# Altium schematic symbol library IND - Fixed Inductors 0402.SchLib: 42 symbols (part 1 of 2)
Pins are listed as number, name and electrical type; pins without a type are passive.

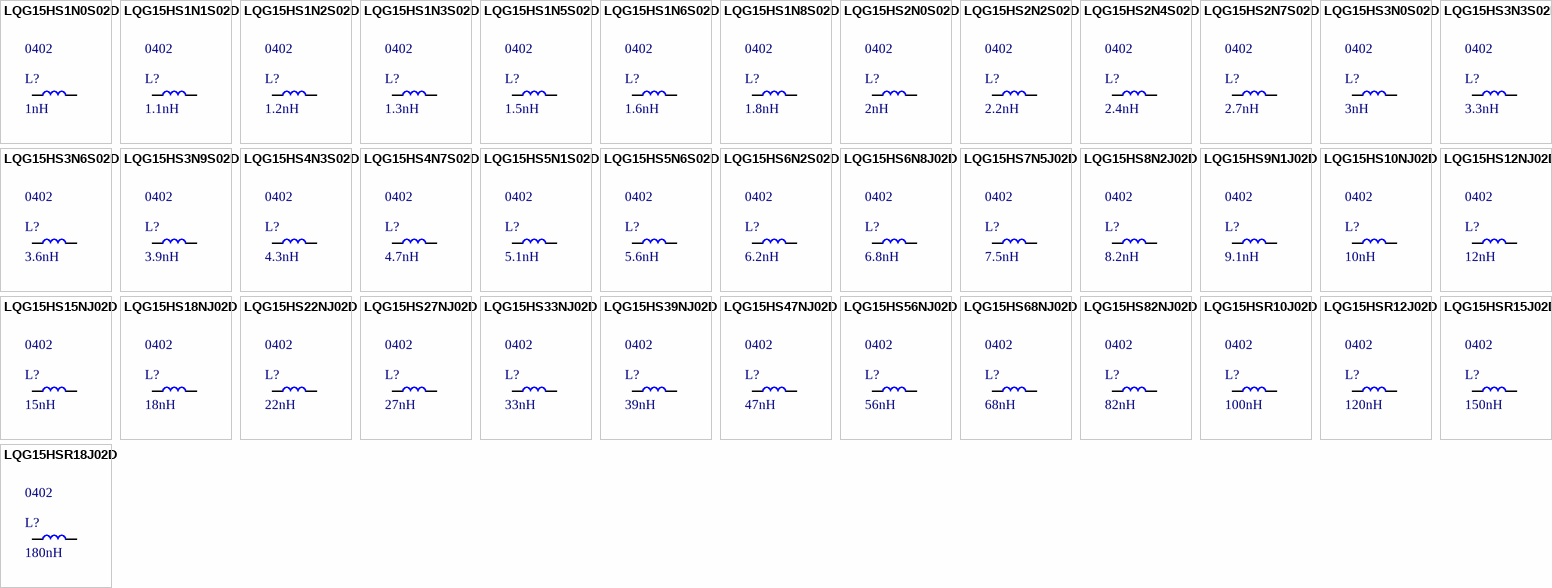
[diagram p0: symbols LQG15HS1N0S02D to LQG15HSR18J02D]

## LQG15HS1N0S02D
designator L?, comment 1nH  Package / Case: 0402
FIXED IND 1NH 1A 70 MOHM SMD; Manufacturer: Murata Electronics North America; Manufacturer Part Number: LQG15HS1N0S02D; Type: Multilayer; Tolerance: ±0.3nH; Shielding: Unshielded; DC Resistance (DCR): 70 mOhm Max; Q @ Freq: 8 @ 100MHz; Frequency - Self Resonant: 10GHz; Frequency - Test: 100MHz; Supplier 1: Digi-Key; RoHS: RoHS Compliant; Category: Inductors, Coils, Chokes; Stock 1: 71998; Pricing 1: 1=0.1, 10=0.059, 25=0.0528, 50=0.0456, 100=0.041, 250=0.03804, 500=0.0351, 750=0.03335, 1000=0.03042 (USD); Packaging: Cut Tape (CT); Part Status: Active; Material - Core: -; Inductance: 1nH; Current Rating: 1A; Current - Saturation: -; Ratings: -; Operating Temperature: -55°C ~ 125°C; Mounting Type: Surface Mount; Supplier Device Package: 0402 (1005 Metric); Size / Dimension: 0.039" L x 0.020" W (1.00mm x 0.50mm); Height - Seated (Max): 0.022" (0.55mm); ComponentLink1URL: http://psearch.en.murata.com/inductor/product/LQG15HS1N0S02_.pdf; ComponentLink1Description: http://psearch.en.murata.com/inductor/product/LQG15HS1N0S02_.pdf; Supplier Part Number 1: 490-2610-1-ND
footprint L 0402 (1005) (Chip Capacitor, 2-Leads, Body 1.0x0.5mm, IPC Medium Density)
pins: 1, 2

## LQG15HS1N1S02D
designator L?, comment 1.1nH  Package / Case: 0402
FIXED IND 1.1NH 1A 90 MOHM; Manufacturer: Murata Electronics North America; Manufacturer Part Number: LQG15HS1N1S02D; Type: Multilayer; Tolerance: ±0.3nH; Shielding: Unshielded; DC Resistance (DCR): 90 mOhm Max; Q @ Freq: 8 @ 100MHz; Frequency - Self Resonant: 6GHz; Frequency - Test: 100MHz; Supplier 1: Digi-Key; RoHS: RoHS Compliant; Category: Inductors, Coils, Chokes; Stock 1: 23731; Pricing 1: 1=0.1, 10=0.059, 25=0.0528, 50=0.0456, 100=0.041, 250=0.03804, 500=0.0351, 750=0.03335, 1000=0.03042 (USD); Packaging: Cut Tape (CT); Part Status: Active; Material - Core: -; Inductance: 1.1nH; Current Rating: 1A; Current - Saturation: -; Ratings: -; Operating Temperature: -55°C ~ 125°C; Mounting Type: Surface Mount; Supplier Device Package: 0402 (1005 Metric); Size / Dimension: 0.039" L x 0.020" W (1.00mm x 0.50mm); Height - Seated (Max): 0.022" (0.55mm); ComponentLink1URL: http://psearch.en.murata.com/inductor/product/LQG15HS1N1S02_.pdf; ComponentLink1Description: http://psearch.en.murata.com/inductor/product/LQG15HS1N1S02_.pdf; Supplier Part Number 1: 490-6567-1-ND
footprint L 0402 (1005) (Chip Capacitor, 2-Leads, Body 1.0x0.5mm, IPC Medium Density)
pins: 1, 2

## LQG15HS1N2S02D
designator L?, comment 1.2nH  Package / Case: 0402
FIXED IND 1.2NH 1A 90 MOHM; Manufacturer: Murata Electronics North America; Manufacturer Part Number: LQG15HS1N2S02D; Type: Multilayer; Tolerance: ±0.3nH; Shielding: Unshielded; DC Resistance (DCR): 90 mOhm Max; Q @ Freq: 8 @ 100MHz; Frequency - Self Resonant: 6GHz; Frequency - Test: 100MHz; Supplier 1: Digi-Key; RoHS: RoHS Compliant; Category: Inductors, Coils, Chokes; Stock 1: 66516; Pricing 1: 1=0.1, 10=0.059, 25=0.0528, 50=0.0456, 100=0.041, 250=0.03804, 500=0.0351, 750=0.03335, 1000=0.03042 (USD); Packaging: Cut Tape (CT); Part Status: Active; Material - Core: -; Inductance: 1.2nH; Current Rating: 1A; Current - Saturation: -; Ratings: -; Operating Temperature: -55°C ~ 125°C; Mounting Type: Surface Mount; Supplier Device Package: 0402 (1005 Metric); Size / Dimension: 0.039" L x 0.020" W (1.00mm x 0.50mm); Height - Seated (Max): 0.022" (0.55mm); ComponentLink1URL: http://psearch.en.murata.com/inductor/product/LQG15HS1N2S02_.pdf; ComponentLink1Description: http://psearch.en.murata.com/inductor/product/LQG15HS1N2S02_.pdf; Supplier Part Number 1: 490-2611-1-ND
footprint L 0402 (1005) (Chip Capacitor, 2-Leads, Body 1.0x0.5mm, IPC Medium Density)
pins: 1, 2

## LQG15HS1N3S02D
designator L?, comment 1.3nH  Package / Case: 0402
FIXED IND 1.3NH 1A 90 MOHM; Manufacturer: Murata Electronics North America; Manufacturer Part Number: LQG15HS1N3S02D; Type: Multilayer; Tolerance: ±0.3nH; Shielding: Unshielded; DC Resistance (DCR): 90 mOhm Max; Q @ Freq: 8 @ 100MHz; Frequency - Self Resonant: 6GHz; Frequency - Test: 100MHz; Supplier 1: Digi-Key; RoHS: RoHS Compliant; Category: Inductors, Coils, Chokes; Stock 1: 17184; Pricing 1: 1=0.1, 10=0.059, 25=0.0528, 50=0.0456, 100=0.041, 250=0.03804, 500=0.0351, 750=0.03335, 1000=0.03042 (USD); Packaging: Cut Tape (CT); Part Status: Active; Material - Core: -; Inductance: 1.3nH; Current Rating: 1A; Current - Saturation: -; Ratings: -; Operating Temperature: -55°C ~ 125°C; Mounting Type: Surface Mount; Supplier Device Package: 0402 (1005 Metric); Size / Dimension: 0.039" L x 0.020" W (1.00mm x 0.50mm); Height - Seated (Max): 0.022" (0.55mm); ComponentLink1URL: http://psearch.en.murata.com/inductor/product/LQG15HS1N3S02_.pdf; ComponentLink1Description: http://psearch.en.murata.com/inductor/product/LQG15HS1N3S02_.pdf; Supplier Part Number 1: 490-6568-1-ND
footprint L 0402 (1005) (Chip Capacitor, 2-Leads, Body 1.0x0.5mm, IPC Medium Density)
pins: 1, 2

## LQG15HS1N5S02D
designator L?, comment 1.5nH  Package / Case: 0402
FIXED IND 1.5NH 1A 100 MOHM; Manufacturer: Murata Electronics North America; Manufacturer Part Number: LQG15HS1N5S02D; Type: Multilayer; Tolerance: ±0.3nH; Shielding: Unshielded; DC Resistance (DCR): 100 mOhm Max; Q @ Freq: 8 @ 100MHz; Frequency - Self Resonant: 6GHz; Frequency - Test: 100MHz; Supplier 1: Digi-Key; RoHS: RoHS Compliant; Category: Inductors, Coils, Chokes; Stock 1: 35953; Pricing 1: 1=0.1, 10=0.055, 25=0.0492, 50=0.0426, 100=0.0382, 250=0.03544, 500=0.0327, 750=0.03107, 1000=0.02834 (USD); Packaging: Cut Tape (CT); Part Status: Active; Material - Core: -; Inductance: 1.5nH; Current Rating: 1A; Current - Saturation: -; Ratings: -; Operating Temperature: -55°C ~ 125°C; Mounting Type: Surface Mount; Supplier Device Package: 0402 (1005 Metric); Size / Dimension: 0.039" L x 0.020" W (1.00mm x 0.50mm); Height - Seated (Max): 0.022" (0.55mm); ComponentLink1URL: http://psearch.en.murata.com/inductor/product/LQG15HS1N5S02_.pdf; ComponentLink1Description: http://psearch.en.murata.com/inductor/product/LQG15HS1N5S02_.pdf; Supplier Part Number 1: 490-2612-1-ND
footprint L 0402 (1005) (Chip Capacitor, 2-Leads, Body 1.0x0.5mm, IPC Medium Density)
pins: 1, 2

## LQG15HS1N6S02D
designator L?, comment 1.6nH  Package / Case: 0402
FIXED IND 1.6NH 1A 100 MOHM; Manufacturer: Murata Electronics North America; Manufacturer Part Number: LQG15HS1N6S02D; Type: Multilayer; Tolerance: ±0.3nH; Shielding: Unshielded; DC Resistance (DCR): 100 mOhm Max; Q @ Freq: 8 @ 100MHz; Frequency - Self Resonant: 6GHz; Frequency - Test: 100MHz; Supplier 1: Digi-Key; RoHS: RoHS Compliant; Category: Inductors, Coils, Chokes; Stock 1: 11878; Pricing 1: 1=0.1, 10=0.059, 25=0.0528, 50=0.0456, 100=0.041, 250=0.03804, 500=0.0351, 750=0.03335, 1000=0.03042 (USD); Packaging: Cut Tape (CT); Part Status: Active; Material - Core: -; Inductance: 1.6nH; Current Rating: 1A; Current - Saturation: -; Ratings: -; Operating Temperature: -55°C ~ 125°C; Mounting Type: Surface Mount; Supplier Device Package: 0402 (1005 Metric); Size / Dimension: 0.039" L x 0.020" W (1.00mm x 0.50mm); Height - Seated (Max): 0.022" (0.55mm); ComponentLink1URL: http://psearch.en.murata.com/inductor/product/LQG15HS1N6S02_.pdf; ComponentLink1Description: http://psearch.en.murata.com/inductor/product/LQG15HS1N6S02_.pdf; Supplier Part Number 1: 490-8388-1-ND
footprint L 0402 (1005) (Chip Capacitor, 2-Leads, Body 1.0x0.5mm, IPC Medium Density)
pins: 1, 2

## LQG15HS1N8S02D
designator L?, comment 1.8nH  Package / Case: 0402
FIXED IND 1.8NH 950MA 100 MOHM; Manufacturer: Murata Electronics North America; Manufacturer Part Number: LQG15HS1N8S02D; Type: Multilayer; Tolerance: ±0.3nH; Shielding: Unshielded; DC Resistance (DCR): 100 mOhm Max; Q @ Freq: 8 @ 100MHz; Frequency - Self Resonant: 6GHz; Frequency - Test: 100MHz; Supplier 1: Digi-Key; RoHS: RoHS Compliant; Category: Inductors, Coils, Chokes; Stock 1: 74354; Pricing 1: 1=0.1, 10=0.055, 25=0.0492, 50=0.0426, 100=0.0382, 250=0.03544, 500=0.0327, 750=0.03107, 1000=0.02834 (USD); Packaging: Cut Tape (CT); Part Status: Active; Material - Core: -; Inductance: 1.8nH; Current Rating: 950mA; Current - Saturation: -; Ratings: -; Operating Temperature: -55°C ~ 125°C; Mounting Type: Surface Mount; Supplier Device Package: 0402 (1005 Metric); Size / Dimension: 0.039" L x 0.020" W (1.00mm x 0.50mm); Height - Seated (Max): 0.022" (0.55mm); ComponentLink1URL: http://psearch.en.murata.com/inductor/product/LQG15HS1N8S02_.pdf; ComponentLink1Description: http://psearch.en.murata.com/inductor/product/LQG15HS1N8S02_.pdf; Supplier Part Number 1: 490-2613-1-ND
footprint L 0402 (1005) (Chip Capacitor, 2-Leads, Body 1.0x0.5mm, IPC Medium Density)
pins: 1, 2

## LQG15HS2N0S02D
designator L?, comment 2nH  Package / Case: 0402
FIXED IND 2NH 900MA 100 MOHM SMD; Manufacturer: Murata Electronics North America; Manufacturer Part Number: LQG15HS2N0S02D; Type: Multilayer; Tolerance: ±0.3nH; Shielding: Unshielded; DC Resistance (DCR): 100 mOhm Max; Q @ Freq: 8 @ 100MHz; Frequency - Self Resonant: 6GHz; Frequency - Test: 100MHz; Supplier 1: Digi-Key; RoHS: RoHS Compliant; Category: Inductors, Coils, Chokes; Stock 1: 143637; Pricing 1: 1=0.1, 10=0.055, 25=0.0492, 50=0.0426, 100=0.0382, 250=0.03544, 500=0.0327, 750=0.03107, 1000=0.02834 (USD); Packaging: Cut Tape (CT); Part Status: Active; Material - Core: -; Inductance: 2nH; Current Rating: 900mA; Current - Saturation: -; Ratings: -; Operating Temperature: -55°C ~ 125°C; Mounting Type: Surface Mount; Supplier Device Package: 0402 (1005 Metric); Size / Dimension: 0.039" L x 0.020" W (1.00mm x 0.50mm); Height - Seated (Max): 0.022" (0.55mm); ComponentLink1URL: http://psearch.en.murata.com/inductor/product/LQG15HS2N0S02_.pdf; ComponentLink1Description: http://psearch.en.murata.com/inductor/product/LQG15HS2N0S02_.pdf; Supplier Part Number 1: 490-6569-1-ND
footprint L 0402 (1005) (Chip Capacitor, 2-Leads, Body 1.0x0.5mm, IPC Medium Density)
pins: 1, 2

## LQG15HS2N2S02D
designator L?, comment 2.2nH  Package / Case: 0402
FIXED IND 2.2NH 900MA 120 MOHM; Manufacturer: Murata Electronics North America; Manufacturer Part Number: LQG15HS2N2S02D; Type: Multilayer; Tolerance: ±0.3nH; Shielding: Unshielded; DC Resistance (DCR): 120 mOhm Max; Q @ Freq: 8 @ 100MHz; Frequency - Self Resonant: 6GHz; Frequency - Test: 100MHz; Supplier 1: Digi-Key; RoHS: RoHS Compliant; Category: Inductors, Coils, Chokes; Stock 1: 47646; Pricing 1: 1=0.1, 10=0.059, 25=0.0528, 50=0.0456, 100=0.041, 250=0.03804, 500=0.0351, 750=0.03335, 1000=0.03042 (USD); Packaging: Cut Tape (CT); Part Status: Active; Material - Core: -; Inductance: 2.2nH; Current Rating: 900mA; Current - Saturation: -; Ratings: -; Operating Temperature: -55°C ~ 125°C; Mounting Type: Surface Mount; Supplier Device Package: 0402 (1005 Metric); Size / Dimension: 0.039" L x 0.020" W (1.00mm x 0.50mm); Height - Seated (Max): 0.022" (0.55mm); ComponentLink1URL: http://psearch.en.murata.com/inductor/product/LQG15HS2N2S02_.pdf; ComponentLink1Description: http://psearch.en.murata.com/inductor/product/LQG15HS2N2S02_.pdf; Supplier Part Number 1: 490-2614-1-ND
footprint L 0402 (1005) (Chip Capacitor, 2-Leads, Body 1.0x0.5mm, IPC Medium Density)
pins: 1, 2

## LQG15HS2N4S02D
designator L?, comment 2.4nH  Package / Case: 0402
FIXED IND 2.4NH 850MA 150 MOHM; Manufacturer: Murata Electronics North America; Manufacturer Part Number: LQG15HS2N4S02D; Type: Multilayer; Tolerance: ±0.3nH; Shielding: Unshielded; DC Resistance (DCR): 150 mOhm Max; Q @ Freq: 8 @ 100MHz; Frequency - Self Resonant: 6GHz; Frequency - Test: 100MHz; Supplier 1: Digi-Key; RoHS: RoHS Compliant; Category: Inductors, Coils, Chokes; Stock 1: 22229; Pricing 1: 1=0.1, 10=0.059, 25=0.0528, 50=0.0456, 100=0.041, 250=0.03804, 500=0.0351, 750=0.03335, 1000=0.03042 (USD); Packaging: Cut Tape (CT); Part Status: Active; Material - Core: -; Inductance: 2.4nH; Current Rating: 850mA; Current - Saturation: -; Ratings: -; Operating Temperature: -55°C ~ 125°C; Mounting Type: Surface Mount; Supplier Device Package: 0402 (1005 Metric); Size / Dimension: 0.039" L x 0.020" W (1.00mm x 0.50mm); Height - Seated (Max): 0.022" (0.55mm); ComponentLink1URL: http://psearch.en.murata.com/inductor/product/LQG15HS2N4S02_.pdf; ComponentLink1Description: http://psearch.en.murata.com/inductor/product/LQG15HS2N4S02_.pdf; Supplier Part Number 1: 490-8389-1-ND
footprint L 0402 (1005) (Chip Capacitor, 2-Leads, Body 1.0x0.5mm, IPC Medium Density)
pins: 1, 2

## LQG15HS2N7S02D
designator L?, comment 2.7nH  Package / Case: 0402
FIXED IND 2.7NH 800MA 150 MOHM; Manufacturer: Murata Electronics North America; Manufacturer Part Number: LQG15HS2N7S02D; Type: Multilayer; Tolerance: ±0.3nH; Shielding: Unshielded; DC Resistance (DCR): 150 mOhm Max; Q @ Freq: 8 @ 100MHz; Frequency - Self Resonant: 6GHz; Frequency - Test: 100MHz; Supplier 1: Digi-Key; RoHS: RoHS Compliant; Category: Inductors, Coils, Chokes; Stock 1: 210782; Pricing 1: 1=0.1, 10=0.059, 25=0.0528, 50=0.0456, 100=0.041, 250=0.03804, 500=0.0351, 750=0.03335, 1000=0.03042 (USD); Packaging: Cut Tape (CT); Part Status: Active; Material - Core: -; Inductance: 2.7nH; Current Rating: 800mA; Current - Saturation: -; Ratings: -; Operating Temperature: -55°C ~ 125°C; Mounting Type: Surface Mount; Supplier Device Package: 0402 (1005 Metric); Size / Dimension: 0.039" L x 0.020" W (1.00mm x 0.50mm); Height - Seated (Max): 0.022" (0.55mm); ComponentLink1URL: http://psearch.en.murata.com/inductor/product/LQG15HS2N7S02_.pdf; ComponentLink1Description: http://psearch.en.murata.com/inductor/product/LQG15HS2N7S02_.pdf; Supplier Part Number 1: 490-2615-1-ND
footprint L 0402 (1005) (Chip Capacitor, 2-Leads, Body 1.0x0.5mm, IPC Medium Density)
pins: 1, 2

## LQG15HS3N0S02D
designator L?, comment 3nH  Package / Case: 0402
FIXED IND 3NH 800MA 170 MOHM SMD; Manufacturer: Murata Electronics North America; Manufacturer Part Number: LQG15HS3N0S02D; Type: Multilayer; Tolerance: ±0.3nH; Shielding: Unshielded; DC Resistance (DCR): 170 mOhm Max; Q @ Freq: 8 @ 100MHz; Frequency - Self Resonant: 6GHz; Frequency - Test: 100MHz; Supplier 1: Digi-Key; RoHS: RoHS Compliant; Category: Inductors, Coils, Chokes; Stock 1: 106762; Pricing 1: 1=0.1, 10=0.055, 25=0.0492, 50=0.0426, 100=0.0382, 250=0.03544, 500=0.0327, 750=0.03107, 1000=0.02834 (USD); Packaging: Cut Tape (CT); Part Status: Active; Material - Core: -; Inductance: 3nH; Current Rating: 800mA; Current - Saturation: -; Ratings: -; Operating Temperature: -55°C ~ 125°C; Mounting Type: Surface Mount; Supplier Device Package: 0402 (1005 Metric); Size / Dimension: 0.039" L x 0.020" W (1.00mm x 0.50mm); Height - Seated (Max): 0.022" (0.55mm); ComponentLink1URL: http://psearch.en.murata.com/inductor/product/LQG15HS3N0S02_.pdf; ComponentLink1Description: http://psearch.en.murata.com/inductor/product/LQG15HS3N0S02_.pdf; Supplier Part Number 1: 490-6570-1-ND
footprint L 0402 (1005) (Chip Capacitor, 2-Leads, Body 1.0x0.5mm, IPC Medium Density)
pins: 1, 2

## LQG15HS3N3S02D
designator L?, comment 3.3nH  Package / Case: 0402
FIXED IND 3.3NH 800MA 170 MOHM; Manufacturer: Murata Electronics North America; Manufacturer Part Number: LQG15HS3N3S02D; Type: Multilayer; Tolerance: ±0.3nH; Shielding: Unshielded; DC Resistance (DCR): 170 mOhm Max; Q @ Freq: 8 @ 100MHz; Frequency - Self Resonant: 6GHz; Frequency - Test: 100MHz; Supplier 1: Digi-Key; RoHS: RoHS Compliant; Category: Inductors, Coils, Chokes; Stock 1: 141347; Pricing 1: 1=0.1, 10=0.055, 25=0.0492, 50=0.0426, 100=0.0382, 250=0.03544, 500=0.0327, 750=0.03107, 1000=0.02834 (USD); Packaging: Cut Tape (CT); Part Status: Active; Material - Core: -; Inductance: 3.3nH; Current Rating: 800mA; Current - Saturation: -; Ratings: -; Operating Temperature: -55°C ~ 125°C; Mounting Type: Surface Mount; Supplier Device Package: 0402 (1005 Metric); Size / Dimension: 0.039" L x 0.020" W (1.00mm x 0.50mm); Height - Seated (Max): 0.022" (0.55mm); ComponentLink1URL: http://psearch.en.murata.com/inductor/product/LQG15HS3N3S02_.pdf; ComponentLink1Description: http://psearch.en.murata.com/inductor/product/LQG15HS3N3S02_.pdf; Supplier Part Number 1: 490-2616-1-ND
footprint L 0402 (1005) (Chip Capacitor, 2-Leads, Body 1.0x0.5mm, IPC Medium Density)
pins: 1, 2

## LQG15HS3N6S02D
designator L?, comment 3.6nH  Package / Case: 0402
FIXED IND 3.6NH 750MA 180 MOHM; Manufacturer: Murata Electronics North America; Manufacturer Part Number: LQG15HS3N6S02D; Type: Multilayer; Tolerance: ±0.3nH; Shielding: Unshielded; DC Resistance (DCR): 180 mOhm Max; Q @ Freq: 8 @ 100MHz; Frequency - Self Resonant: 6GHz; Frequency - Test: 100MHz; Supplier 1: Digi-Key; RoHS: RoHS Compliant; Category: Inductors, Coils, Chokes; Stock 1: 61365; Pricing 1: 1=0.1, 10=0.055, 25=0.0492, 50=0.0426, 100=0.0382, 250=0.03544, 500=0.0327, 750=0.03107, 1000=0.02834 (USD); Packaging: Cut Tape (CT); Part Status: Active; Material - Core: -; Inductance: 3.6nH; Current Rating: 750mA; Current - Saturation: -; Ratings: -; Operating Temperature: -55°C ~ 125°C; Mounting Type: Surface Mount; Supplier Device Package: 0402 (1005 Metric); Size / Dimension: 0.039" L x 0.020" W (1.00mm x 0.50mm); Height - Seated (Max): 0.022" (0.55mm); ComponentLink1URL: http://psearch.en.murata.com/inductor/product/LQG15HS3N6S02_.pdf; ComponentLink1Description: http://psearch.en.murata.com/inductor/product/LQG15HS3N6S02_.pdf; Supplier Part Number 1: 490-6571-1-ND
footprint L 0402 (1005) (Chip Capacitor, 2-Leads, Body 1.0x0.5mm, IPC Medium Density)
pins: 1, 2

## LQG15HS3N9S02D
designator L?, comment 3.9nH  Package / Case: 0402
FIXED IND 3.9NH 750MA 180 MOHM; Manufacturer: Murata Electronics North America; Manufacturer Part Number: LQG15HS3N9S02D; Type: Multilayer; Tolerance: ±0.3nH; Shielding: Unshielded; DC Resistance (DCR): 180 mOhm Max; Q @ Freq: 8 @ 100MHz; Frequency - Self Resonant: 6GHz; Frequency - Test: 100MHz; Supplier 1: Digi-Key; RoHS: RoHS Compliant; Category: Inductors, Coils, Chokes; Stock 1: 46747; Pricing 1: 1=0.1, 10=0.059, 25=0.0528, 50=0.0456, 100=0.041, 250=0.03804, 500=0.0351, 750=0.03335, 1000=0.03042 (USD); Packaging: Cut Tape (CT); Part Status: Active; Material - Core: -; Inductance: 3.9nH; Current Rating: 750mA; Current - Saturation: -; Ratings: -; Operating Temperature: -55°C ~ 125°C; Mounting Type: Surface Mount; Supplier Device Package: 0402 (1005 Metric); Size / Dimension: 0.039" L x 0.020" W (1.00mm x 0.50mm); Height - Seated (Max): 0.022" (0.55mm); ComponentLink1URL: http://psearch.en.murata.com/inductor/product/LQG15HS3N9S02_.pdf; ComponentLink1Description: http://psearch.en.murata.com/inductor/product/LQG15HS3N9S02_.pdf; Supplier Part Number 1: 490-2617-1-ND
footprint L 0402 (1005) (Chip Capacitor, 2-Leads, Body 1.0x0.5mm, IPC Medium Density)
pins: 1, 2

## LQG15HS4N3S02D
designator L?, comment 4.3nH  Package / Case: 0402
FIXED IND 4.3NH 750MA 180 MOHM; Manufacturer: Murata Electronics North America; Manufacturer Part Number: LQG15HS4N3S02D; Type: Multilayer; Tolerance: ±0.3nH; Shielding: Unshielded; DC Resistance (DCR): 180 mOhm Max; Q @ Freq: 8 @ 100MHz; Frequency - Self Resonant: 6GHz; Frequency - Test: 100MHz; Supplier 1: Digi-Key; RoHS: RoHS Compliant; Category: Inductors, Coils, Chokes; Stock 1: 81017; Pricing 1: 1=0.1, 10=0.059, 25=0.0528, 50=0.0456, 100=0.041, 250=0.03804, 500=0.0351, 750=0.03335, 1000=0.03042 (USD); Packaging: Cut Tape (CT); Part Status: Active; Material - Core: -; Inductance: 4.3nH; Current Rating: 750mA; Current - Saturation: -; Ratings: -; Operating Temperature: -55°C ~ 125°C; Mounting Type: Surface Mount; Supplier Device Package: 0402 (1005 Metric); Size / Dimension: 0.039" L x 0.020" W (1.00mm x 0.50mm); Height - Seated (Max): 0.022" (0.55mm); ComponentLink1URL: http://psearch.en.murata.com/inductor/product/LQG15HS4N3S02_.pdf; ComponentLink1Description: http://psearch.en.murata.com/inductor/product/LQG15HS4N3S02_.pdf; Supplier Part Number 1: 490-6572-1-ND
footprint L 0402 (1005) (Chip Capacitor, 2-Leads, Body 1.0x0.5mm, IPC Medium Density)
pins: 1, 2

## LQG15HS4N7S02D
designator L?, comment 4.7nH  Package / Case: 0402
FIXED IND 4.7NH 700MA 180 MOHM; Manufacturer: Murata Electronics North America; Manufacturer Part Number: LQG15HS4N7S02D; Type: Multilayer; Tolerance: ±0.3nH; Shielding: Unshielded; DC Resistance (DCR): 180 mOhm Max; Q @ Freq: 8 @ 100MHz; Frequency - Self Resonant: 6GHz; Frequency - Test: 100MHz; Supplier 1: Digi-Key; RoHS: RoHS Compliant; Category: Inductors, Coils, Chokes; Stock 1: 39816; Pricing 1: 1=0.1, 10=0.059, 25=0.0528, 50=0.0456, 100=0.041, 250=0.03804, 500=0.0351, 750=0.03335, 1000=0.03042 (USD); Packaging: Cut Tape (CT); Part Status: Active; Material - Core: -; Inductance: 4.7nH; Current Rating: 700mA; Current - Saturation: -; Ratings: -; Operating Temperature: -55°C ~ 125°C; Mounting Type: Surface Mount; Supplier Device Package: 0402 (1005 Metric); Size / Dimension: 0.039" L x 0.020" W (1.00mm x 0.50mm); Height - Seated (Max): 0.022" (0.55mm); ComponentLink1URL: http://psearch.en.murata.com/inductor/product/LQG15HS4N7S02_.pdf; ComponentLink1Description: http://psearch.en.murata.com/inductor/product/LQG15HS4N7S02_.pdf; Supplier Part Number 1: 490-2618-1-ND
footprint L 0402 (1005) (Chip Capacitor, 2-Leads, Body 1.0x0.5mm, IPC Medium Density)
pins: 1, 2

## LQG15HS5N1S02D
designator L?, comment 5.1nH  Package / Case: 0402
FIXED IND 5.1NH 650MA 200 MOHM; Manufacturer: Murata Electronics North America; Manufacturer Part Number: LQG15HS5N1S02D; Type: Multilayer; Tolerance: ±0.3nH; Shielding: Unshielded; DC Resistance (DCR): 200 mOhm Max; Q @ Freq: 8 @ 100MHz; Frequency - Self Resonant: 5.3GHz; Frequency - Test: 100MHz; Supplier 1: Digi-Key; RoHS: RoHS Compliant; Category: Inductors, Coils, Chokes; Stock 1: 82871; Pricing 1: 1=0.1, 10=0.059, 25=0.0528, 50=0.0456, 100=0.041, 250=0.03804, 500=0.0351, 750=0.03335, 1000=0.03042 (USD); Packaging: Cut Tape (CT); Part Status: Active; Material - Core: -; Inductance: 5.1nH; Current Rating: 650mA; Current - Saturation: -; Ratings: -; Operating Temperature: -55°C ~ 125°C; Mounting Type: Surface Mount; Supplier Device Package: 0402 (1005 Metric); Size / Dimension: 0.039" L x 0.020" W (1.00mm x 0.50mm); Height - Seated (Max): 0.022" (0.55mm); ComponentLink1URL: http://psearch.en.murata.com/inductor/product/LQG15HS5N1S02_.pdf; ComponentLink1Description: http://psearch.en.murata.com/inductor/product/LQG15HS5N1S02_.pdf; Supplier Part Number 1: 490-6573-1-ND
footprint L 0402 (1005) (Chip Capacitor, 2-Leads, Body 1.0x0.5mm, IPC Medium Density)
pins: 1, 2

## LQG15HS5N6S02D
designator L?, comment 5.6nH  Package / Case: 0402
FIXED IND 5.6NH 650MA 200 MOHM; Manufacturer: Murata Electronics North America; Manufacturer Part Number: LQG15HS5N6S02D; Type: Multilayer; Tolerance: ±0.3nH; Shielding: Unshielded; DC Resistance (DCR): 200 mOhm Max; Q @ Freq: 8 @ 100MHz; Frequency - Self Resonant: 4.5GHz; Frequency - Test: 100MHz; Supplier 1: Digi-Key; RoHS: RoHS Compliant; Category: Inductors, Coils, Chokes; Stock 1: 34653; Pricing 1: 1=0.1, 10=0.059, 25=0.0528, 50=0.0456, 100=0.041, 250=0.03804, 500=0.0351, 750=0.03335, 1000=0.03042 (USD); Packaging: Cut Tape (CT); Part Status: Active; Material - Core: -; Inductance: 5.6nH; Current Rating: 650mA; Current - Saturation: -; Ratings: -; Operating Temperature: -55°C ~ 125°C; Mounting Type: Surface Mount; Supplier Device Package: 0402 (1005 Metric); Size / Dimension: 0.039" L x 0.020" W (1.00mm x 0.50mm); Height - Seated (Max): 0.022" (0.55mm); ComponentLink1URL: http://psearch.en.murata.com/inductor/product/LQG15HS5N6S02_.pdf; ComponentLink1Description: http://psearch.en.murata.com/inductor/product/LQG15HS5N6S02_.pdf; Supplier Part Number 1: 490-2619-1-ND
footprint L 0402 (1005) (Chip Capacitor, 2-Leads, Body 1.0x0.5mm, IPC Medium Density)
pins: 1, 2

## LQG15HS6N2S02D
designator L?, comment 6.2nH  Package / Case: 0402
FIXED IND 6.2NH 600MA 220 MOHM; Manufacturer: Murata Electronics North America; Manufacturer Part Number: LQG15HS6N2S02D; Type: Multilayer; Tolerance: ±0.3nH; Shielding: Unshielded; DC Resistance (DCR): 220 mOhm Max; Q @ Freq: 8 @ 100MHz; Frequency - Self Resonant: 4.5GHz; Frequency - Test: 100MHz; Supplier 1: Digi-Key; RoHS: RoHS Compliant; Category: Inductors, Coils, Chokes; Stock 1: 41047; Pricing 1: 1=0.1, 10=0.059, 25=0.0528, 50=0.0456, 100=0.041, 250=0.03804, 500=0.0351, 750=0.03335, 1000=0.03042 (USD); Packaging: Cut Tape (CT); Part Status: Active; Material - Core: -; Inductance: 6.2nH; Current Rating: 600mA; Current - Saturation: -; Ratings: -; Operating Temperature: -55°C ~ 125°C; Mounting Type: Surface Mount; Supplier Device Package: 0402 (1005 Metric); Size / Dimension: 0.039" L x 0.020" W (1.00mm x 0.50mm); Height - Seated (Max): 0.022" (0.55mm); ComponentLink1URL: http://psearch.en.murata.com/inductor/product/LQG15HS6N2S02_.pdf; ComponentLink1Description: http://psearch.en.murata.com/inductor/product/LQG15HS6N2S02_.pdf; Supplier Part Number 1: 490-2620-1-ND
footprint L 0402 (1005) (Chip Capacitor, 2-Leads, Body 1.0x0.5mm, IPC Medium Density)
pins: 1, 2

## LQG15HS6N8J02D
designator L?, comment 6.8nH  Package / Case: 0402
FIXED IND 6.8NH 600MA 240 MOHM; Manufacturer: Murata Electronics North America; Manufacturer Part Number: LQG15HS6N8J02D; Type: Multilayer; Tolerance: ±5%; Shielding: Unshielded; DC Resistance (DCR): 240 mOhm Max; Q @ Freq: 8 @ 100MHz; Frequency - Self Resonant: 4.5GHz; Frequency - Test: 100MHz; Supplier 1: Digi-Key; RoHS: RoHS Compliant; Category: Inductors, Coils, Chokes; Stock 1: 75461; Pricing 1: 1=0.1, 10=0.059, 25=0.0528, 50=0.0456, 100=0.041, 250=0.03804, 500=0.0351, 750=0.03335, 1000=0.03042 (USD); Packaging: Cut Tape (CT); Part Status: Active; Material - Core: -; Inductance: 6.8nH; Current Rating: 600mA; Current - Saturation: -; Ratings: -; Operating Temperature: -55°C ~ 125°C; Mounting Type: Surface Mount; Supplier Device Package: 0402 (1005 Metric); Size / Dimension: 0.039" L x 0.020" W (1.00mm x 0.50mm); Height - Seated (Max): 0.022" (0.55mm); ComponentLink1URL: http://psearch.en.murata.com/inductor/product/LQG15HS6N8J02_.pdf; ComponentLink1Description: http://psearch.en.murata.com/inductor/product/LQG15HS6N8J02_.pdf; Supplier Part Number 1: 490-2621-1-ND
footprint L 0402 (1005) (Chip Capacitor, 2-Leads, Body 1.0x0.5mm, IPC Medium Density)
pins: 1, 2

## LQG15HS7N5J02D
designator L?, comment 7.5nH  Package / Case: 0402
FIXED IND 7.5NH 550MA 240 MOHM; Manufacturer: Murata Electronics North America; Manufacturer Part Number: LQG15HS7N5J02D; Type: Multilayer; Tolerance: ±5%; Shielding: Unshielded; DC Resistance (DCR): 240 mOhm Max; Q @ Freq: 8 @ 100MHz; Frequency - Self Resonant: 4.2GHz; Frequency - Test: 100MHz; Supplier 1: Digi-Key; RoHS: RoHS Compliant; Category: Inductors, Coils, Chokes; Stock 1: 44857; Pricing 1: 1=0.1, 10=0.059, 25=0.0528, 50=0.0456, 100=0.041, 250=0.03804, 500=0.0351, 750=0.03335, 1000=0.03042 (USD); Packaging: Cut Tape (CT); Part Status: Active; Material - Core: -; Inductance: 7.5nH; Current Rating: 550mA; Current - Saturation: -; Ratings: -; Operating Temperature: -55°C ~ 125°C; Mounting Type: Surface Mount; Supplier Device Package: 0402 (1005 Metric); Size / Dimension: 0.039" L x 0.020" W (1.00mm x 0.50mm); Height - Seated (Max): 0.022" (0.55mm); ComponentLink1URL: http://psearch.en.murata.com/inductor/product/LQG15HS7N5J02_.pdf; ComponentLink1Description: http://psearch.en.murata.com/inductor/product/LQG15HS7N5J02_.pdf; Supplier Part Number 1: 490-3456-1-ND
footprint L 0402 (1005) (Chip Capacitor, 2-Leads, Body 1.0x0.5mm, IPC Medium Density)
pins: 1, 2

## LQG15HS8N2J02D
designator L?, comment 8.2nH  Package / Case: 0402
FIXED IND 8.2NH 550MA 240 MOHM; Manufacturer: Murata Electronics North America; Manufacturer Part Number: LQG15HS8N2J02D; Type: Multilayer; Tolerance: ±5%; Shielding: Unshielded; DC Resistance (DCR): 240 mOhm Max; Q @ Freq: 8 @ 100MHz; Frequency - Self Resonant: 3.7GHz; Frequency - Test: 100MHz; Supplier 1: Digi-Key; RoHS: RoHS Compliant; Category: Inductors, Coils, Chokes; Stock 1: 16176; Pricing 1: 1=0.1, 10=0.059, 25=0.0528, 50=0.0456, 100=0.041, 250=0.03804, 500=0.0351, 750=0.03335, 1000=0.03042 (USD); Packaging: Cut Tape (CT); Part Status: Active; Material - Core: -; Inductance: 8.2nH; Current Rating: 550mA; Current - Saturation: -; Ratings: -; Operating Temperature: -55°C ~ 125°C; Mounting Type: Surface Mount; Supplier Device Package: 0402 (1005 Metric); Size / Dimension: 0.039" L x 0.020" W (1.00mm x 0.50mm); Height - Seated (Max): 0.022" (0.55mm); ComponentLink1URL: http://psearch.en.murata.com/inductor/product/LQG15HS8N2J02_.pdf; ComponentLink1Description: http://psearch.en.murata.com/inductor/product/LQG15HS8N2J02_.pdf; Supplier Part Number 1: 490-2622-1-ND
footprint L 0402 (1005) (Chip Capacitor, 2-Leads, Body 1.0x0.5mm, IPC Medium Density)
pins: 1, 2

## LQG15HS9N1J02D
designator L?, comment 9.1nH  Package / Case: 0402
FIXED IND 9.1NH 500MA 260 MOHM; Manufacturer: Murata Electronics North America; Manufacturer Part Number: LQG15HS9N1J02D; Type: Multilayer; Tolerance: ±5%; Shielding: Unshielded; DC Resistance (DCR): 260 mOhm Max; Q @ Freq: 8 @ 100MHz; Frequency - Self Resonant: 3.4GHz; Frequency - Test: 100MHz; Supplier 1: Digi-Key; RoHS: RoHS Compliant; Category: Inductors, Coils, Chokes; Stock 1: 25117; Pricing 1: 1=0.1, 10=0.059, 25=0.0528, 50=0.0456, 100=0.041, 250=0.03804, 500=0.0351, 750=0.03335, 1000=0.03042 (USD); Packaging: Cut Tape (CT); Part Status: Active; Material - Core: -; Inductance: 9.1nH; Current Rating: 500mA; Current - Saturation: -; Ratings: -; Operating Temperature: -55°C ~ 125°C; Mounting Type: Surface Mount; Supplier Device Package: 0402 (1005 Metric); Size / Dimension: 0.039" L x 0.020" W (1.00mm x 0.50mm); Height - Seated (Max): 0.022" (0.55mm); ComponentLink1URL: http://psearch.en.murata.com/inductor/product/LQG15HS9N1J02_.pdf; ComponentLink1Description: http://psearch.en.murata.com/inductor/product/LQG15HS9N1J02_.pdf; Supplier Part Number 1: 490-8390-1-ND
footprint L 0402 (1005) (Chip Capacitor, 2-Leads, Body 1.0x0.5mm, IPC Medium Density)
pins: 1, 2

## LQG15HS10NJ02D
designator L?, comment 10nH  Package / Case: 0402
FIXED IND 10NH 500MA 260 MOHM; Manufacturer: Murata Electronics North America; Manufacturer Part Number: LQG15HS10NJ02D; Type: Multilayer; Tolerance: ±5%; Shielding: Unshielded; DC Resistance (DCR): 260 mOhm Max; Q @ Freq: 8 @ 100MHz; Frequency - Self Resonant: 3.4GHz; Frequency - Test: 100MHz; Supplier 1: Digi-Key; RoHS: RoHS Compliant; Category: Inductors, Coils, Chokes; Stock 1: 52506; Pricing 1: 1=0.1, 10=0.059, 25=0.0528, 50=0.0456, 100=0.041, 250=0.03804, 500=0.0351, 750=0.03335, 1000=0.03042 (USD); Packaging: Cut Tape (CT); Part Status: Active; Material - Core: -; Inductance: 10nH; Current Rating: 500mA; Current - Saturation: -; Ratings: -; Operating Temperature: -55°C ~ 125°C; Mounting Type: Surface Mount; Supplier Device Package: 0402 (1005 Metric); Size / Dimension: 0.039" L x 0.020" W (1.00mm x 0.50mm); Height - Seated (Max): 0.022" (0.55mm); ComponentLink1URL: http://psearch.en.murata.com/inductor/product/LQG15HS10NJ02_.pdf; ComponentLink1Description: http://psearch.en.murata.com/inductor/product/LQG15HS10NJ02_.pdf; Supplier Part Number 1: 490-2623-1-ND
footprint L 0402 (1005) (Chip Capacitor, 2-Leads, Body 1.0x0.5mm, IPC Medium Density)
pins: 1, 2

## LQG15HS12NJ02D
designator L?, comment 12nH  Package / Case: 0402
FIXED IND 12NH 500MA 280 MOHM; Manufacturer: Murata Electronics North America; Manufacturer Part Number: LQG15HS12NJ02D; Type: Multilayer; Tolerance: ±5%; Shielding: Unshielded; DC Resistance (DCR): 280 mOhm Max; Q @ Freq: 8 @ 100MHz; Frequency - Self Resonant: 3GHz; Frequency - Test: 100MHz; Supplier 1: Digi-Key; RoHS: RoHS Compliant; Category: Inductors, Coils, Chokes; Stock 1: 48046; Pricing 1: 1=0.1, 10=0.059, 25=0.0528, 50=0.0456, 100=0.041, 250=0.03804, 500=0.0351, 750=0.03335, 1000=0.03042 (USD); Packaging: Cut Tape (CT); Part Status: Active; Material - Core: -; Inductance: 12nH; Current Rating: 500mA; Current - Saturation: -; Ratings: -; Operating Temperature: -55°C ~ 125°C; Mounting Type: Surface Mount; Supplier Device Package: 0402 (1005 Metric); Size / Dimension: 0.039" L x 0.020" W (1.00mm x 0.50mm); Height - Seated (Max): 0.022" (0.55mm); ComponentLink1URL: http://psearch.en.murata.com/inductor/product/LQG15HS12NJ02_.pdf; ComponentLink1Description: http://psearch.en.murata.com/inductor/product/LQG15HS12NJ02_.pdf; Supplier Part Number 1: 490-2624-1-ND
footprint L 0402 (1005) (Chip Capacitor, 2-Leads, Body 1.0x0.5mm, IPC Medium Density)
pins: 1, 2

## LQG15HS15NJ02D
designator L?, comment 15nH  Package / Case: 0402
FIXED IND 15NH 450MA 320 MOHM; Manufacturer: Murata Electronics North America; Manufacturer Part Number: LQG15HS15NJ02D; Type: Multilayer; Tolerance: ±5%; Shielding: Unshielded; DC Resistance (DCR): 320 mOhm Max; Q @ Freq: 8 @ 100MHz; Frequency - Self Resonant: 2.5GHz; Frequency - Test: 100MHz; Supplier 1: Digi-Key; RoHS: RoHS Compliant; Category: Inductors, Coils, Chokes; Stock 1: 39774; Pricing 1: 1=0.1, 10=0.059, 25=0.0528, 50=0.0456, 100=0.041, 250=0.03804, 500=0.0351, 750=0.03335, 1000=0.03042 (USD); Packaging: Cut Tape (CT); Part Status: Active; Material - Core: -; Inductance: 15nH; Current Rating: 450mA; Current - Saturation: -; Ratings: -; Operating Temperature: -55°C ~ 125°C; Mounting Type: Surface Mount; Supplier Device Package: 0402 (1005 Metric); Size / Dimension: 0.039" L x 0.020" W (1.00mm x 0.50mm); Height - Seated (Max): 0.022" (0.55mm); ComponentLink1URL: http://psearch.en.murata.com/inductor/product/LQG15HS15NJ02_.pdf; ComponentLink1Description: http://psearch.en.murata.com/inductor/product/LQG15HS15NJ02_.pdf; Supplier Part Number 1: 490-2625-1-ND
footprint L 0402 (1005) (Chip Capacitor, 2-Leads, Body 1.0x0.5mm, IPC Medium Density)
pins: 1, 2

## LQG15HS18NJ02D
designator L?, comment 18nH  Package / Case: 0402
FIXED IND 18NH 400MA 360 MOHM; Manufacturer: Murata Electronics North America; Manufacturer Part Number: LQG15HS18NJ02D; Type: Multilayer; Tolerance: ±5%; Shielding: Unshielded; DC Resistance (DCR): 360 mOhm Max; Q @ Freq: 8 @ 100MHz; Frequency - Self Resonant: 2.2GHz; Frequency - Test: 100MHz; Supplier 1: Digi-Key; RoHS: RoHS Compliant; Category: Inductors, Coils, Chokes; Stock 1: 45254; Pricing 1: 1=0.1, 10=0.059, 25=0.0528, 50=0.0456, 100=0.041, 250=0.03804, 500=0.0351, 750=0.03335, 1000=0.03042 (USD); Packaging: Cut Tape (CT); Part Status: Active; Material - Core: -; Inductance: 18nH; Current Rating: 400mA; Current - Saturation: -; Ratings: -; Operating Temperature: -55°C ~ 125°C; Mounting Type: Surface Mount; Supplier Device Package: 0402 (1005 Metric); Size / Dimension: 0.039" L x 0.020" W (1.00mm x 0.50mm); Height - Seated (Max): 0.022" (0.55mm); ComponentLink1URL: http://psearch.en.murata.com/inductor/product/LQG15HS18NJ02_.pdf; ComponentLink1Description: http://psearch.en.murata.com/inductor/product/LQG15HS18NJ02_.pdf; Supplier Part Number 1: 490-2626-1-ND
footprint L 0402 (1005) (Chip Capacitor, 2-Leads, Body 1.0x0.5mm, IPC Medium Density)
pins: 1, 2

## LQG15HS22NJ02D
designator L?, comment 22nH  Package / Case: 0402
FIXED IND 22NH 350MA 420 MOHM; Manufacturer: Murata Electronics North America; Manufacturer Part Number: LQG15HS22NJ02D; Type: Multilayer; Tolerance: ±5%; Shielding: Unshielded; DC Resistance (DCR): 420 mOhm Max; Q @ Freq: 8 @ 100MHz; Frequency - Self Resonant: 1.9GHz; Frequency - Test: 100MHz; Supplier 1: Digi-Key; RoHS: RoHS Compliant; Category: Inductors, Coils, Chokes; Stock 1: 104108; Pricing 1: 1=0.1, 10=0.059, 25=0.0528, 50=0.0456, 100=0.041, 250=0.03804, 500=0.0351, 750=0.03335, 1000=0.03042 (USD); Packaging: Cut Tape (CT); Part Status: Active; Material - Core: -; Inductance: 22nH; Current Rating: 350mA; Current - Saturation: -; Ratings: -; Operating Temperature: -55°C ~ 125°C; Mounting Type: Surface Mount; Supplier Device Package: 0402 (1005 Metric); Size / Dimension: 0.039" L x 0.020" W (1.00mm x 0.50mm); Height - Seated (Max): 0.022" (0.55mm); ComponentLink1URL: http://psearch.en.murata.com/inductor/product/LQG15HS22NJ02_.pdf; ComponentLink1Description: http://psearch.en.murata.com/inductor/product/LQG15HS22NJ02_.pdf; Supplier Part Number 1: 490-2627-1-ND
footprint L 0402 (1005) (Chip Capacitor, 2-Leads, Body 1.0x0.5mm, IPC Medium Density)
pins: 1, 2

## LQG15HS27NJ02D
designator L?, comment 27nH  Package / Case: 0402
FIXED IND 27NH 350MA 460 MOHM; Manufacturer: Murata Electronics North America; Manufacturer Part Number: LQG15HS27NJ02D; Type: Multilayer; Tolerance: ±5%; Shielding: Unshielded; DC Resistance (DCR): 460 mOhm Max; Q @ Freq: 8 @ 100MHz; Frequency - Self Resonant: 1.7GHz; Frequency - Test: 100MHz; Supplier 1: Digi-Key; RoHS: RoHS Compliant; Category: Inductors, Coils, Chokes; Stock 1: 122751; Pricing 1: 1=0.1, 10=0.059, 25=0.0528, 50=0.0456, 100=0.041, 250=0.03804, 500=0.0351, 750=0.03335, 1000=0.03042 (USD); Packaging: Cut Tape (CT); Part Status: Active; Material - Core: -; Inductance: 27nH; Current Rating: 350mA; Current - Saturation: -; Ratings: -; Operating Temperature: -55°C ~ 125°C; Mounting Type: Surface Mount; Supplier Device Package: 0402 (1005 Metric); Size / Dimension: 0.039" L x 0.020" W (1.00mm x 0.50mm); Height - Seated (Max): 0.022" (0.55mm); ComponentLink1URL: http://psearch.en.murata.com/inductor/product/LQG15HS27NJ02_.pdf; ComponentLink1Description: http://psearch.en.murata.com/inductor/product/LQG15HS27NJ02_.pdf; Supplier Part Number 1: 490-2628-1-ND
footprint L 0402 (1005) (Chip Capacitor, 2-Leads, Body 1.0x0.5mm, IPC Medium Density)
pins: 1, 2

## LQG15HS33NJ02D
designator L?, comment 33nH  Package / Case: 0402
FIXED IND 33NH 350MA 580 MOHM; Manufacturer: Murata Electronics North America; Manufacturer Part Number: LQG15HS33NJ02D; Type: Multilayer; Tolerance: ±5%; Shielding: Unshielded; DC Resistance (DCR): 580 mOhm Max; Q @ Freq: 8 @ 100MHz; Frequency - Self Resonant: 1.6GHz; Frequency - Test: 100MHz; Supplier 1: Digi-Key; RoHS: RoHS Compliant; Category: Inductors, Coils, Chokes; Stock 1: 45317; Pricing 1: 1=0.1, 10=0.059, 25=0.0528, 50=0.0456, 100=0.041, 250=0.03804, 500=0.0351, 750=0.03335, 1000=0.03042 (USD); Packaging: Cut Tape (CT); Part Status: Active; Material - Core: -; Inductance: 33nH; Current Rating: 350mA; Current - Saturation: -; Ratings: -; Operating Temperature: -55°C ~ 125°C; Mounting Type: Surface Mount; Supplier Device Package: 0402 (1005 Metric); Size / Dimension: 0.039" L x 0.020" W (1.00mm x 0.50mm); Height - Seated (Max): 0.022" (0.55mm); ComponentLink1URL: http://psearch.en.murata.com/inductor/product/LQG15HS33NJ02_.pdf; ComponentLink1Description: http://psearch.en.murata.com/inductor/product/LQG15HS33NJ02_.pdf; Supplier Part Number 1: 490-2629-1-ND
footprint L 0402 (1005) (Chip Capacitor, 2-Leads, Body 1.0x0.5mm, IPC Medium Density)
pins: 1, 2

## LQG15HS39NJ02D
designator L?, comment 39nH  Package / Case: 0402
FIXED IND 39NH 300MA 650 MOHM; Manufacturer: Murata Electronics North America; Manufacturer Part Number: LQG15HS39NJ02D; Type: Multilayer; Tolerance: ±5%; Shielding: Unshielded; DC Resistance (DCR): 650 mOhm Max; Q @ Freq: 8 @ 100MHz; Frequency - Self Resonant: 1.2GHz; Frequency - Test: 100MHz; Supplier 1: Digi-Key; RoHS: RoHS Compliant; Category: Inductors, Coils, Chokes; Stock 1: 53048; Pricing 1: 1=0.1, 10=0.064, 25=0.0576, 50=0.05, 100=0.0448, 250=0.0416, 500=0.0384, 750=0.03648, 1000=0.03328 (USD); Packaging: Cut Tape (CT); Part Status: Active; Material - Core: -; Inductance: 39nH; Current Rating: 300mA; Current - Saturation: -; Ratings: -; Operating Temperature: -55°C ~ 125°C; Mounting Type: Surface Mount; Supplier Device Package: 0402 (1005 Metric); Size / Dimension: 0.039" L x 0.020" W (1.00mm x 0.50mm); Height - Seated (Max): 0.022" (0.55mm); ComponentLink1URL: http://psearch.en.murata.com/inductor/product/LQG15HS39NJ02_.pdf; ComponentLink1Description: http://psearch.en.murata.com/inductor/product/LQG15HS39NJ02_.pdf; Supplier Part Number 1: 490-2630-1-ND
footprint L 0402 (1005) (Chip Capacitor, 2-Leads, Body 1.0x0.5mm, IPC Medium Density)
pins: 1, 2

## LQG15HS47NJ02D
designator L?, comment 47nH  Package / Case: 0402
FIXED IND 47NH 300MA 720 MOHM; Manufacturer: Murata Electronics North America; Manufacturer Part Number: LQG15HS47NJ02D; Type: Multilayer; Tolerance: ±5%; Shielding: Unshielded; DC Resistance (DCR): 720 mOhm Max; Q @ Freq: 8 @ 100MHz; Frequency - Self Resonant: 1GHz; Frequency - Test: 100MHz; Supplier 1: Digi-Key; RoHS: RoHS Compliant; Category: Inductors, Coils, Chokes; Stock 1: 32519; Pricing 1: 1=0.1, 10=0.064, 25=0.0576, 50=0.05, 100=0.0448, 250=0.0416, 500=0.0384, 750=0.03648, 1000=0.03328 (USD); Packaging: Cut Tape (CT); Part Status: Active; Material - Core: -; Inductance: 47nH; Current Rating: 300mA; Current - Saturation: -; Ratings: -; Operating Temperature: -55°C ~ 125°C; Mounting Type: Surface Mount; Supplier Device Package: 0402 (1005 Metric); Size / Dimension: 0.039" L x 0.020" W (1.00mm x 0.50mm); Height - Seated (Max): 0.022" (0.55mm); ComponentLink1URL: http://psearch.en.murata.com/inductor/product/LQG15HS47NJ02_.pdf; ComponentLink1Description: http://psearch.en.murata.com/inductor/product/LQG15HS47NJ02_.pdf; Supplier Part Number 1: 490-2631-1-ND
footprint L 0402 (1005) (Chip Capacitor, 2-Leads, Body 1.0x0.5mm, IPC Medium Density)
pins: 1, 2

## LQG15HS56NJ02D
designator L?, comment 56nH  Package / Case: 0402
FIXED IND 56NH 250MA 820 MOHM; Manufacturer: Murata Electronics North America; Manufacturer Part Number: LQG15HS56NJ02D; Type: Multilayer; Tolerance: ±5%; Shielding: Unshielded; DC Resistance (DCR): 820 mOhm Max; Q @ Freq: 8 @ 100MHz; Frequency - Self Resonant: 800MHz; Frequency - Test: 100MHz; Supplier 1: Digi-Key; RoHS: RoHS Compliant; Category: Inductors, Coils, Chokes; Stock 1: 19955; Pricing 1: 1=0.1, 10=0.064, 25=0.0576, 50=0.05, 100=0.0448, 250=0.0416, 500=0.0384, 750=0.03648, 1000=0.03328 (USD); Packaging: Cut Tape (CT); Part Status: Active; Material - Core: -; Inductance: 56nH; Current Rating: 250mA; Current - Saturation: -; Ratings: -; Operating Temperature: -55°C ~ 125°C; Mounting Type: Surface Mount; Supplier Device Package: 0402 (1005 Metric); Size / Dimension: 0.039" L x 0.020" W (1.00mm x 0.50mm); Height - Seated (Max): 0.022" (0.55mm); ComponentLink1URL: http://psearch.en.murata.com/inductor/product/LQG15HS56NJ02_.pdf; ComponentLink1Description: http://psearch.en.murata.com/inductor/product/LQG15HS56NJ02_.pdf; Supplier Part Number 1: 490-2632-1-ND
footprint L 0402 (1005) (Chip Capacitor, 2-Leads, Body 1.0x0.5mm, IPC Medium Density)
pins: 1, 2

## LQG15HS68NJ02D
designator L?, comment 68nH  Package / Case: 0402
FIXED IND 68NH 250MA 920 MOHM; Manufacturer: Murata Electronics North America; Manufacturer Part Number: LQG15HS68NJ02D; Type: Multilayer; Tolerance: ±5%; Shielding: Unshielded; DC Resistance (DCR): 920 mOhm Max; Q @ Freq: 8 @ 100MHz; Frequency - Self Resonant: 800MHz; Frequency - Test: 100MHz; Supplier 1: Digi-Key; RoHS: RoHS Compliant; Category: Inductors, Coils, Chokes; Stock 1: 24528; Pricing 1: 1=0.1, 10=0.064, 25=0.0576, 50=0.05, 100=0.0448, 250=0.0416, 500=0.0384, 750=0.03648, 1000=0.03328 (USD); Packaging: Cut Tape (CT); Part Status: Active; Material - Core: -; Inductance: 68nH; Current Rating: 250mA; Current - Saturation: -; Ratings: -; Operating Temperature: -55°C ~ 125°C; Mounting Type: Surface Mount; Supplier Device Package: 0402 (1005 Metric); Size / Dimension: 0.039" L x 0.020" W (1.00mm x 0.50mm); Height - Seated (Max): 0.022" (0.55mm); ComponentLink1URL: http://psearch.en.murata.com/inductor/product/LQG15HS68NJ02_.pdf; ComponentLink1Description: http://psearch.en.murata.com/inductor/product/LQG15HS68NJ02_.pdf; Supplier Part Number 1: 490-2633-1-ND
footprint L 0402 (1005) (Chip Capacitor, 2-Leads, Body 1.0x0.5mm, IPC Medium Density)
pins: 1, 2

## LQG15HS82NJ02D
designator L?, comment 82nH  Package / Case: 0402
FIXED IND 82NH 200MA 1.2 OHM SMD; Manufacturer: Murata Electronics North America; Manufacturer Part Number: LQG15HS82NJ02D; Type: Multilayer; Tolerance: ±5%; Shielding: Unshielded; DC Resistance (DCR): 1.2 Ohm Max; Q @ Freq: 8 @ 100MHz; Frequency - Self Resonant: 700MHz; Frequency - Test: 100MHz; Supplier 1: Digi-Key; RoHS: RoHS Compliant; Category: Inductors, Coils, Chokes; Stock 1: 21756; Pricing 1: 1=0.1, 10=0.069, 25=0.062, 50=0.0538, 100=0.0483, 250=0.04484, 500=0.0414, 750=0.03933, 1000=0.03588 (USD); Packaging: Cut Tape (CT); Part Status: Active; Material - Core: -; Inductance: 82nH; Current Rating: 200mA; Current - Saturation: -; Ratings: -; Operating Temperature: -55°C ~ 125°C; Mounting Type: Surface Mount; Supplier Device Package: 0402 (1005 Metric); Size / Dimension: 0.039" L x 0.020" W (1.00mm x 0.50mm); Height - Seated (Max): 0.022" (0.55mm); ComponentLink1URL: http://psearch.en.murata.com/inductor/product/LQG15HS82NJ02_.pdf; ComponentLink1Description: http://psearch.en.murata.com/inductor/product/LQG15HS82NJ02_.pdf; Supplier Part Number 1: 490-2634-1-ND
footprint L 0402 (1005) (Chip Capacitor, 2-Leads, Body 1.0x0.5mm, IPC Medium Density)
pins: 1, 2

## LQG15HSR10J02D
designator L?, comment 100nH  Package / Case: 0402
FIXED IND 100NH 200MA 1.25 OHM; Manufacturer: Murata Electronics North America; Manufacturer Part Number: LQG15HSR10J02D; Type: Multilayer; Tolerance: ±5%; Shielding: Unshielded; DC Resistance (DCR): 1.25 Ohm Max; Q @ Freq: 8 @ 100MHz; Frequency - Self Resonant: 600MHz; Frequency - Test: 100MHz; Supplier 1: Digi-Key; RoHS: RoHS Compliant; Category: Inductors, Coils, Chokes; Stock 1: 87967; Pricing 1: 1=0.1, 10=0.069, 25=0.062, 50=0.0538, 100=0.0483, 250=0.04484, 500=0.0414, 750=0.03933, 1000=0.03588 (USD); Packaging: Cut Tape (CT); Part Status: Active; Material - Core: -; Inductance: 100nH; Current Rating: 200mA; Current - Saturation: -; Ratings: -; Operating Temperature: -55°C ~ 125°C; Mounting Type: Surface Mount; Supplier Device Package: 0402 (1005 Metric); Size / Dimension: 0.039" L x 0.020" W (1.00mm x 0.50mm); Height - Seated (Max): 0.022" (0.55mm); ComponentLink1URL: http://psearch.en.murata.com/inductor/product/LQG15HSR10J02_.pdf; ComponentLink1Description: http://psearch.en.murata.com/inductor/product/LQG15HSR10J02_.pdf; Supplier Part Number 1: 490-2635-1-ND
footprint L 0402 (1005) (Chip Capacitor, 2-Leads, Body 1.0x0.5mm, IPC Medium Density)
pins: 1, 2

## LQG15HSR12J02D
designator L?, comment 120nH  Package / Case: 0402
FIXED IND 120NH 200MA 1.3 OHM; Manufacturer: Murata Electronics North America; Manufacturer Part Number: LQG15HSR12J02D; Type: Multilayer; Tolerance: ±5%; Shielding: Unshielded; DC Resistance (DCR): 1.3 Ohm Max; Q @ Freq: 8 @ 100MHz; Frequency - Self Resonant: 600MHz; Frequency - Test: 100MHz; Supplier 1: Digi-Key; RoHS: RoHS Compliant; Category: Inductors, Coils, Chokes; Stock 1: 20627; Pricing 1: 1=0.1, 10=0.069, 25=0.062, 50=0.0538, 100=0.0483, 250=0.04484, 500=0.0414, 750=0.03933, 1000=0.03588 (USD); Packaging: Cut Tape (CT); Part Status: Active; Material - Core: -; Inductance: 120nH; Current Rating: 200mA; Current - Saturation: -; Ratings: -; Operating Temperature: -55°C ~ 125°C; Mounting Type: Surface Mount; Supplier Device Package: 0402 (1005 Metric); Size / Dimension: 0.039" L x 0.020" W (1.00mm x 0.50mm); Height - Seated (Max): 0.022" (0.55mm); ComponentLink1URL: http://psearch.en.murata.com/inductor/product/LQG15HSR12J02_.pdf; ComponentLink1Description: http://psearch.en.murata.com/inductor/product/LQG15HSR12J02_.pdf; Supplier Part Number 1: 490-2636-1-ND
footprint L 0402 (1005) (Chip Capacitor, 2-Leads, Body 1.0x0.5mm, IPC Medium Density)
pins: 1, 2

## LQG15HSR15J02D
designator L?, comment 150nH  Package / Case: 0402
FIXED IND 150NH 150MA 2.99 OHM; Manufacturer: Murata Electronics North America; Manufacturer Part Number: LQG15HSR15J02D; Type: Multilayer; Tolerance: ±5%; Shielding: Unshielded; DC Resistance (DCR): 2.99 Ohm Max; Q @ Freq: 8 @ 100MHz; Frequency - Self Resonant: 550MHz; Frequency - Test: 100MHz; Supplier 1: Digi-Key; RoHS: RoHS Compliant; Category: Inductors, Coils, Chokes; Stock 1: 32667; Pricing 1: 1=0.1, 10=0.076, 25=0.068, 50=0.0588, 100=0.0529, 250=0.04908, 500=0.0453, 750=0.04304, 1000=0.03926 (USD); Packaging: Cut Tape (CT); Part Status: Active; Material - Core: -; Inductance: 150nH; Current Rating: 150mA; Current - Saturation: -; Ratings: -; Operating Temperature: -55°C ~ 125°C; Mounting Type: Surface Mount; Supplier Device Package: 0402 (1005 Metric); Size / Dimension: 0.039" L x 0.020" W (1.00mm x 0.50mm); Height - Seated (Max): 0.022" (0.55mm); ComponentLink1URL: http://psearch.en.murata.com/inductor/product/LQG15HSR15J02_.pdf; ComponentLink1Description: http://psearch.en.murata.com/inductor/product/LQG15HSR15J02_.pdf; Supplier Part Number 1: 490-2637-1-ND
footprint L 0402 (1005) (Chip Capacitor, 2-Leads, Body 1.0x0.5mm, IPC Medium Density)
pins: 1, 2